# Altium schematic symbol library TPS40304DRCR.SCHLIB: 1 symbol
Pins are listed as number, name and electrical type; pins without a type are passive.

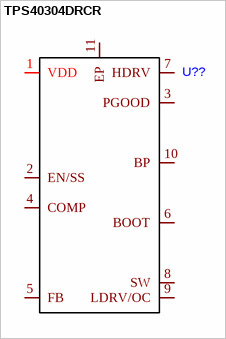
[diagram p0: symbol TPS40304DRCR]

## TPS40304DRCR
designator U??
footprint WSON-10_L3.0-W3.0-P0.50-TL-EP
pins: 1 VDD, 2 EN/SS, 3 PGOOD, 4 COMP, 5 FB, 6 BOOT, 7 HDRV, 8 SW, 9 LDRV/OC, 10 BP, 11 EP